# Altium footprint library SM_MSS1278.PcbLib: 1 footprints
Each footprint in its own frame and in the unit in brackets; x right, y up, seen from the top. Pads: shape width x height; smd on the part's side, far side on the other; paste and mask are expansions set on the pad; w line width, h text height; cw(c..) or ccw(c..) is an arc to the next point about the centre after c.
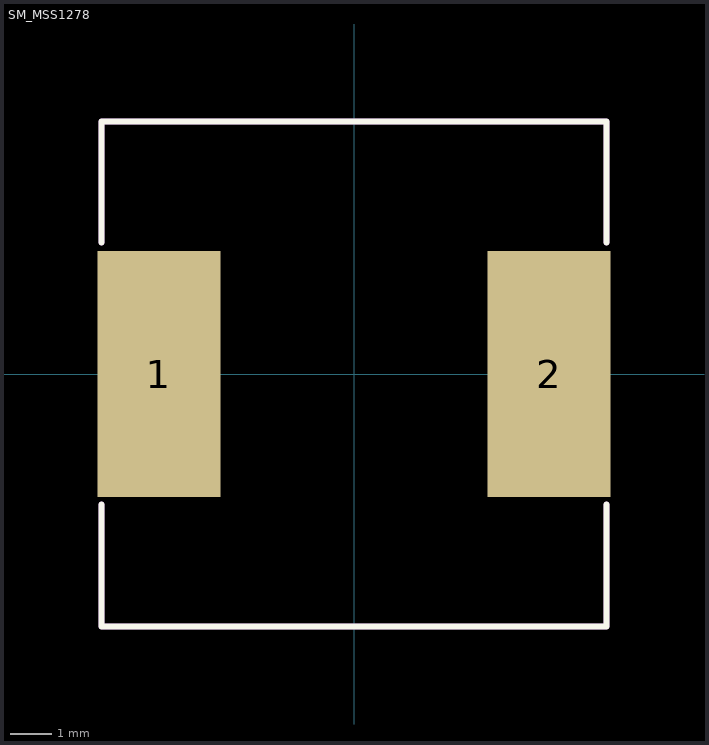
[diagram p0: the footprint, top view; thin cyan lines are the x and y axes]

## SM_MSS1278 [mil]
pads (2):
  rect 118.1x236.2 smd: 1(-187,0) 2(187,0)
Top Overlay:
  lines w5.9: -242.12,-125 -242.12,-242.12 242.13,-242.12 242.13,-125 ; -242.12,126 -242.12,242.12 242.13,242.12 242.13,126
Mechanical 1:
  lines w5.9: -242.12,-125 -242.12,-242.12 242.13,-242.12 242.13,-125 ; -242.12,126 -242.12,242.12 242.13,242.12 242.13,126
3D body: height 316.93, standoff -1.38, extent -242.12,-242.12 242.13,242.13